# Altium footprint library Connectors.PcbLib: 28 footprints (part 2 of 2)
Each footprint in its own frame and in the unit in brackets; x right, y up, seen from the top. Pads: shape width x height; smd on the part's side, far side on the other; paste and mask are expansions set on the pad; w line width, h text height; cw(c..) or ccw(c..) is an arc to the next point about the centre after c.
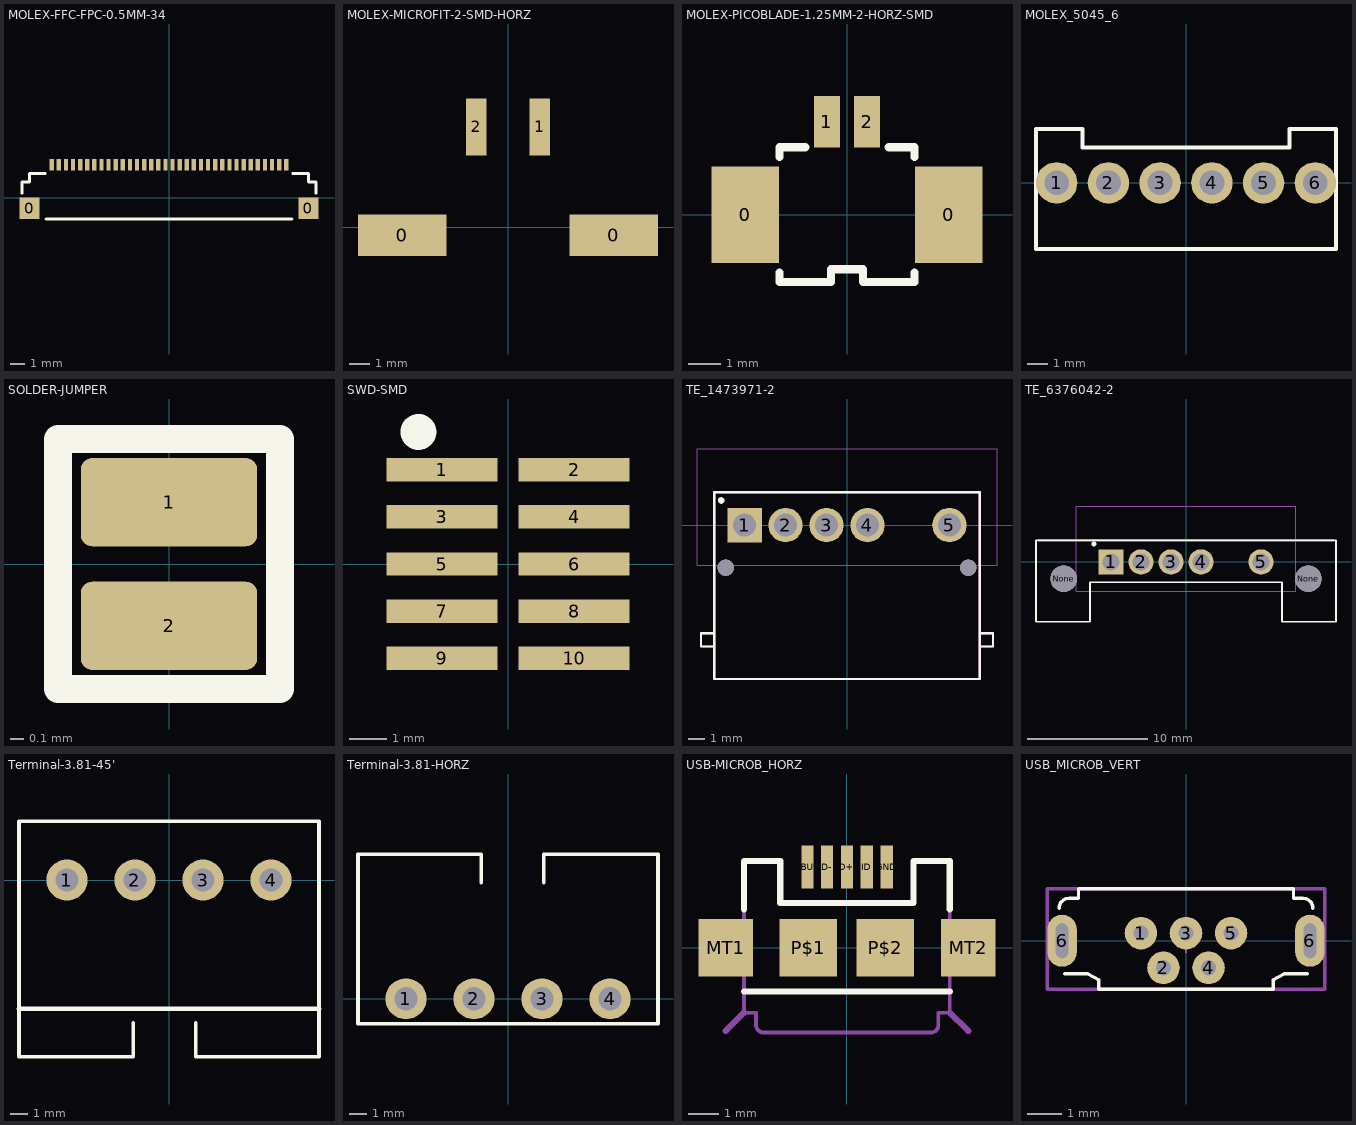
[diagram p1: the footprints below, top view; thin cyan lines are the x and y axes]

## MOLEX-FFC-FPC-0.5MM-34 [mm]
pads (37):
  rect 1.4x1.5 smd: 0(-9.8,-0.75) 0(9.8,-0.75)
  rect 0.3x0.8 smd: 1(-8.25,2.3) 1(-8.25,2.3) 2(-7.75,2.3) 3(-7.25,2.3) 4(-6.75,2.3) 5(-6.25,2.3) 6(-5.75,2.3) 7(-5.25,2.3) 8(-4.75,2.3) 9(-4.25,2.3) 10(-3.75,2.3) 11(-3.25,2.3) 12(-2.75,2.3) 13(-2.25,2.3) 14(-1.75,2.3) 15(-1.25,2.3) 16(-0.75,2.3) 17(-0.25,2.3) 18(0.25,2.3) 19(0.75,2.3) 20(1.25,2.3) 21(1.75,2.3) 22(2.25,2.3) 23(2.75,2.3) 24(3.25,2.3) 25(3.75,2.3) 26(4.25,2.3) 27(4.75,2.3) 28(5.25,2.3) 29(5.75,2.3) 30(6.25,2.3) 31(6.75,2.3) 32(7.25,2.3) 33(7.75,2.3) 34(8.25,2.3)
Top Overlay:
  lines w0.2: -10.35,0.3 -10.35,1.1 -9.8,1.1 -9.8,1.7 -8.7,1.7 ; -8.65,-1.5 8.65,-1.5 ; 8.7,1.7 9.8,1.7 9.8,1.1 10.35,1.1 10.35,0.3
3D body "512963494.stp": height 1.25, standoff -0.05, extent -10.35,-1.799 10.35,2.5

## MOLEX-MICROFIT-2-SMD-HORZ [mm] "Micro-Fit 3.0?Right Angle Header, 3.00mm Pitch, Single Row, 2 Circuits, with Solder Tab, Tin, Glow Wire Capable, Black"
pads (4):
  rect 4.25x2 smd: 0(-5.08,-0.381) 0(5.08,-0.381)
  rect 1x2.75 smd: 1(1.524,4.826) 2(-1.524,4.826)
3D body "436500212.stp": height 5.64, standoff -0.04, extent -6.792,-4.989 6.858,5.751

## MOLEX-PICOBLADE-1.25MM-2-HORZ-SMD [mm]
pads (4):
  rect 2.1x3 smd: 0(-3.175,0) 0(3.175,0)
  rect 0.8x1.6 smd: 1(-0.625,2.9) 2(0.625,2.9)
Top Overlay:
  lines w0.254: -2.1,-1.8 -2.1,-2.1 -1,-2.1 -0.5,-2.1 -0.5,-1.7 0.5,-1.7 0.5,-2.1 1,-2.1 2.1,-2.1 2.1,-1.8 ; -2.1,1.8 -2.1,2.1 -1.3,2.1 ; 1.3,2.1 2.1,2.1 2.1,1.8
3D body "532610271.stp": height 3.4, standoff 0, extent -3.825,-2.075 3.825,3.125

## MOLEX_5045_6 [mm]
pads (6):
  round 2 hole 1.2: 1(-6.25,0) 2(-3.75,0) 3(-1.25,0) 4(1.25,0) 5(3.75,0) 6(6.25,0)
Top Overlay:
  lines w0.2: -7.25,2.6 -5,2.6 ; 5,2.6 7.25,2.6
  lines w0.203: -7.25,2.6 -7.25,-3.2 7.25,-3.2 7.25,2.6 ; -5,2.6 -5,1.7 5,1.7 5,2.6
3D body "MOLEX_5045_6.stp": height 11.7, standoff -3.4, extent -7.25,-3.15 7.25,2.65

## SOLDER-JUMPER [mm]
pads (2):
  rrect25% 1.27x0.635 smd mask+0: 1(0,0.445) 2(0,-0.445)
Top Overlay:
  lines w0.203: -0.8,-0.9 -0.8,0.9 0.8,0.9 0.8,-0.9 -0.8,-0.9

## SWD-SMD [mm]
pads (10):
  rect 3x0.625 smd: 1(-1.778,2.54) 2(1.778,2.54) 3(-1.778,1.27) 4(1.778,1.27) 5(-1.778,0) 6(1.778,0) 7(-1.778,-1.27) 8(1.778,-1.27) 9(-1.778,-2.54) 10(1.778,-2.54)
Top Overlay:
  circle w0.762: c-2.413,3.556 r0.1
3D body "FTSH-105-01-F-DV.stp": height 5.96, standoff -0.01, extent -2.921,-3.175 2.921,3.175

## TE_1473971-2 [mm]
pads (7):
  rect 2.1x2.1 hole 1.4: 1(-6.25,0)
  round 2.1 hole 1.4: 2(-3.75,0) 3(-1.25,0) 4(1.25,0) 5(6.25,0)
  round 1 hole 1 unplated: None(-7.4,-2.6) None(7.4,-2.6)
Top Overlay:
  circle w0.2: c-7.675,1.5 r0.1
  lines w0.127: -8.1,-7.4 -8.9,-7.4 -8.9,-6.6 -8.1,-6.6 ; 8.1,-7.4 8.9,-7.4 8.9,-6.6 8.1,-6.6 ; -8.1,-9.4 8.1,-9.4 8.1,2 -8.1,2 -8.1,-9.4
Mechanical 13:
  lines w0.127: -8.1,-7.4 -8.9,-7.4 -8.9,-6.6 -8.1,-6.6 ; 8.1,-7.4 8.9,-7.4 8.9,-6.6 8.1,-6.6 ; -8.1,-9.4 8.1,-9.4 8.1,2 -8.1,2 -8.1,-9.4
Mechanical 15:
  lines w0.05: -9.15,-2.45 -9.15,4.65 9.15,4.65 9.15,-2.45 -9.15,-2.45
3D body "c-1473971-2-a1-3d.stp": height 5.4, standoff -1.9, extent -8.9,-9.4 8.9,0.1

## TE_6376042-2 [mm]
pads (7):
  rect 2.1x2.1 hole 1.4: 1(-6.25,0)
  round 2.1 hole 1.4: 2(-3.75,0) 3(-1.25,0) 4(1.25,0) 5(6.25,0)
  round 2.2 hole 2.2 unplated: None(-10.2,-1.4) None(10.2,-1.4)
Top Overlay:
  circle w0.2: c-7.675,1.5 r0.1
  lines w0.127: -12.5,-5 -12.5,1.8 12.5,1.8 12.5,-5 8,-5 8,-1.7 -8,-1.7 -8,-5 -12.5,-5
Mechanical 13:
  lines w0.127: -12.5,-1.1 -12.5,1.8
  lines w0.254: -12.3,1.8 12.3,1.8
Mechanical 15:
  lines w0.05: -9.15,-2.45 -9.15,4.65 9.15,4.65 9.15,-2.45 -9.15,-2.45
3D body "c-6376042-2-a-3d.stp": height 5.8, standoff -1.8, extent -12.3,-4.75 12.3,7.3

## Terminal-3.81-45' [mm]
pads (4):
  round 2.3 hole 1.3: 1(-5.715,0) 2(-1.905,0) 3(1.905,0) 4(5.715,0)
Top Overlay:
  lines w0.203: -2,-8 -2,-9.9 -8.4,-9.9 -8.4,3.3 8.4,3.3 8.4,-9.9 1.5,-9.9 1.5,-8
  lines w0.254: -8.4,-7.2 8.4,-7.2
3D body "1827295_02.stp": height 11.1, standoff -3.4, extent -8.315,-9.799 8.315,3.299
3D body "1827295_02.stp": height 11.1, standoff -3.4, extent -8.315,-9.849 8.315,3.249

## Terminal-3.81-HORZ [mm]
pads (4):
  round 2.3 hole 1.3: 1(-5.715,0) 2(-1.905,0) 3(1.905,0) 4(5.715,0)
Top Overlay:
  lines w0.203: -1.5,6.5 -1.5,8.1 -8.4,8.1 -8.4,-1.4 8.4,-1.4 8.4,8.1 2,8.1 2,6.5
3D body "1803293_05.stp": height 7.25, standoff -3.4, extent -8.315,-1.3 8.315,8

## USB-MICROB_HORZ [mil]
pads (9):
  rect 15.75x56 smd: D+(0,105) D-(-25.59,105) GND(52,105) ID(26,105) VBUS(-51.18,105)
  rect 71x75 smd: MT1(-157.48,0) MT2(158,0)
  rect 75x75 smd: P$1(-50,0) P$2(50,0)
Top Overlay:
  lines w8: -133.86,-57.09 134,-57.09 ; -133.86,50 -133.86,113 -86.61,113 -86.61,58 87,58 87,113 134,113 134,50
Mechanical 16:
  lines w5: -133.86,-57.09 134,-57.09 ; -133.86,-57.09 -133.86,113 -86.61,113 -86.61,58 87,58 87,113 134,113 134,-57.09 ; -133.86,-57.09 -133.86,-84.65 -118.11,-84.65 -118.11,-100.39 ccw(c-108.76,-100.98) -110.24,-110.24 109,-110.24 ccw(c109.67,-100.8) 119,-102.36 119,-84.65 134,-84.65 134,-57.09
  lines w8: -157.48,-108.27 -133.86,-84.65 ; 134,-84.65 158,-108.27
3D body "micro USB.STEP": height 112.35, standoff -2.75, extent -156.96,-98.43 156.96,115.19

## USB_MICROB_VERT [mm] "Micro USB 2.0 Type B Vertical 5 Contacts 614105150721"
height 5.61
pads (7):
  round 0.94 hole 0.44: 1(-1.3,0.22) 2(-0.65,-0.78) 3(0,0.22) 4(0.65,-0.78) 5(1.3,0.22)
  oval 0.85x1.5 hole 0.35 slot 1 at 90 deg: 6(-3.575,0) 6(3.575,0)
Top Overlay:
  lines w0.1: -3.66,0.94 cw(c-3.38,0.94) -3.373,1.22 -3.1,1.22 -3.1,1.5 3.1,1.5 3.1,1.22 3.373,1.22 cw(c3.38,0.94) 3.66,0.94 ; -3.5,-0.953 -2.828,-0.953 -2.51,-1.13 -2.51,-1.4 2.51,-1.4 2.51,-1.13 2.828,-0.953 3.5,-0.953
Mechanical 1:
  text "PCB Thickness 1.0mm" at -3.5,-2.1 h0.76
Mechanical 13:
  lines w0.1: -4,-1.4 -4,1.5 4,1.5 4,-1.4 -4,-1.4
Mechanical 15:
  lines w0.05: -0.35,0 0.35,0 ; 0,-0.35 0,0.35
3D body "614105150721.stp": height 5.61, standoff -1.84, extent -4,-1.4 4,1.5